# Altium schematic symbol library Schlib1.SchLib: 2 symbols
Pins are listed as number, name and electrical type; pins without a type are passive.

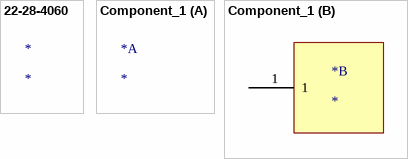
[diagram p0: symbols 22-28-4060 to Component_1]

## 22-28-4060
designator *
Board Connector, 6 Contact(s), 1 Row(s), Male, Straight, 0.1 inch Pitch, Solder Terminal, Locking, Black Insulator, Receptacle; Manufacturer: Molex; Option: General Purpose; Number of Contacts: 6; Contact Style: SQ PIN-SKT; Filter Feature: No; Insulation Resistance: 1GR; PCB Contact Pattern: RECTANGULAR; Number Of PCB Rows: 1; Contact Resistance: 10mR; Durability: 25Cycles; Mating Information: MULTIPLE MATING PARTS AVAILABLE; Insertion Force-Max: 4.8928N; Withdrawl Force-Min: 0.556N; Body Breadth: 0.098inch; Plating Thickness: 100uin; Body Depth: 0.09inch; Body Length: 0.6inch; Reference Standard: UL; Reliability: COMMERCIAL; Supplier: Mouser; Supplier Part Number: 538-22-28-4060; Manufacturer Part Number: 22-28-4060; RoHS: Yes; Category: Headers and Wire Housings; Stock: 2452; Pricing: 1=0,41, 10=0,259, 50=0,259, 100=0,216, 1000=0,191, 10000=0,165 (USD); Mounting Technology: Board; Contact Finish - Mating: NOT SPECIFIED; Insulation Color: Black; Contact Finish - Termination: Tin (Sn) - with Nickel (Ni) barrier; Insulation Material: Nylon; Connector Type: BOARD CONNECTOR; Contact Gender: Male; Mounting Style: STRAIGHT; Termination: Solder; Mixed Contacts: No; Body/Shell Style: RECEPTACLE; Contact Pattern: RECTANGULAR; Number of Rows Loaded: 1; JESD-609 Code: e3; Number Of Connectors: 1; Terminal Pitch: 2.54mm; Mating Contact Pitch: 0.1inch; Mounting Option 1: LOCKING; Terminal Length: 0.455inch; Flammability Rating: UL94 V-0; DIN Conformance: No; IEC Conformance: No; MIL Conformance: No; Reach SVHC Compliant: Yes; RoHS Compliant: Yes; ComponentLink1URL: https://datasheet.ciiva.com:443/pdfs/VipMasterIC/IC/MOLE/MOLE-S-A0003536348/MOLE-S-A0003536348-1.pdf?src-supplier=IHS+Markit; ComponentLink1Description: https://datasheet.ciiva.com:443/pdfs/VipMasterIC/IC/MOLE/MOLE-S-A0003536348/MOLE-S-A0003536348-1.pdf?src-supplier=IHS+Markit; ComponentLink2URL: https://datasheet.ciiva.com/6814/022284363-sd-6814049.pdf?src-supplier=Digikey; ComponentLink2Description: https://datasheet.ciiva.com/6814/022284363-sd-6814049.pdf?src-supplier=Digikey; ComponentLink3URL: https://datasheet.ciiva.com/34301/879545-34301644.pdf?src-supplier=Jameco; ComponentLink3Description: https://datasheet.ciiva.com/34301/879545-34301644.pdf?src-supplier=Jameco; ComponentLink4URL: https://datasheet.ciiva.com/6890/022284060-sd-6890807.pdf?src-supplier=Digikey; ComponentLink4Description: https://datasheet.ciiva.com/6890/022284060-sd-6890807.pdf?src-supplier=Digikey

## Component_1
designator *
footprint PCBComponent_1
footprint PCBComponent_1
part B pins: 1